# EAGLE library part MC74LVXT8051DG (library MC74LVXT8051)
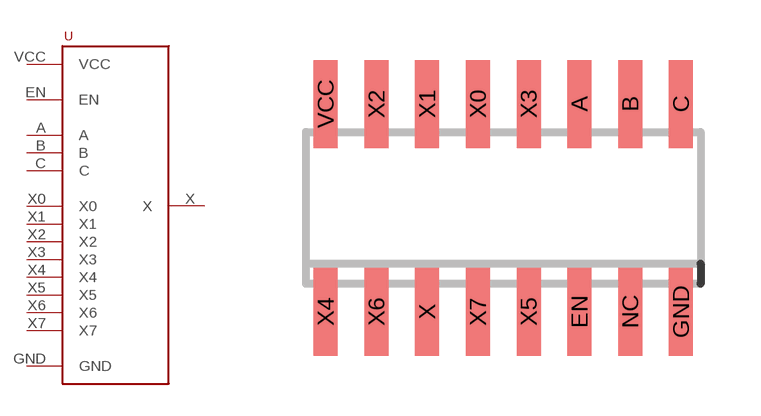
[diagram p0: symbol with the pads of SOIC16N; footprint SOIC16N]

Designator prefix -

## MC74LVXT8051DG  [SOIC16N]
A  A
B  B
C  C
EN  EN
GND  GND
VCC  VCC
X  X
X0  X0
X1  X1
X2  X2
X3  X3
X4  X4
X5  X5
X6  X6
X7  X7

## Footprint SOIC16N (pad centres in mm)
SMALL OUTLINE INTEGRATED CIRCUIT
smd 0.6 x 2.2: A 1.905,2.6; B 3.175,2.6; C 4.445,2.6; EN 1.905,-2.6; GND 4.445,-2.6; NC 3.175,-2.6; VCC -4.445,2.6; X -1.905,-2.6; X0 -0.635,2.6; X1 -1.905,2.6; X2 -3.175,2.6; X3 0.635,2.6; X4 -4.445,-2.6; X5 0.635,-2.6; X6 -3.175,-2.6; X7 -0.635,-2.6